# Altium footprint library Connectors.PcbLib: 62 footprints (part 3 of 4)
Each footprint in its own frame and in the unit in brackets; x right, y up, seen from the top. Pads: shape width x height; smd on the part's side, far side on the other; paste and mask are expansions set on the pad; w line width, h text height; cw(c..) or ccw(c..) is an arc to the next point about the centre after c.
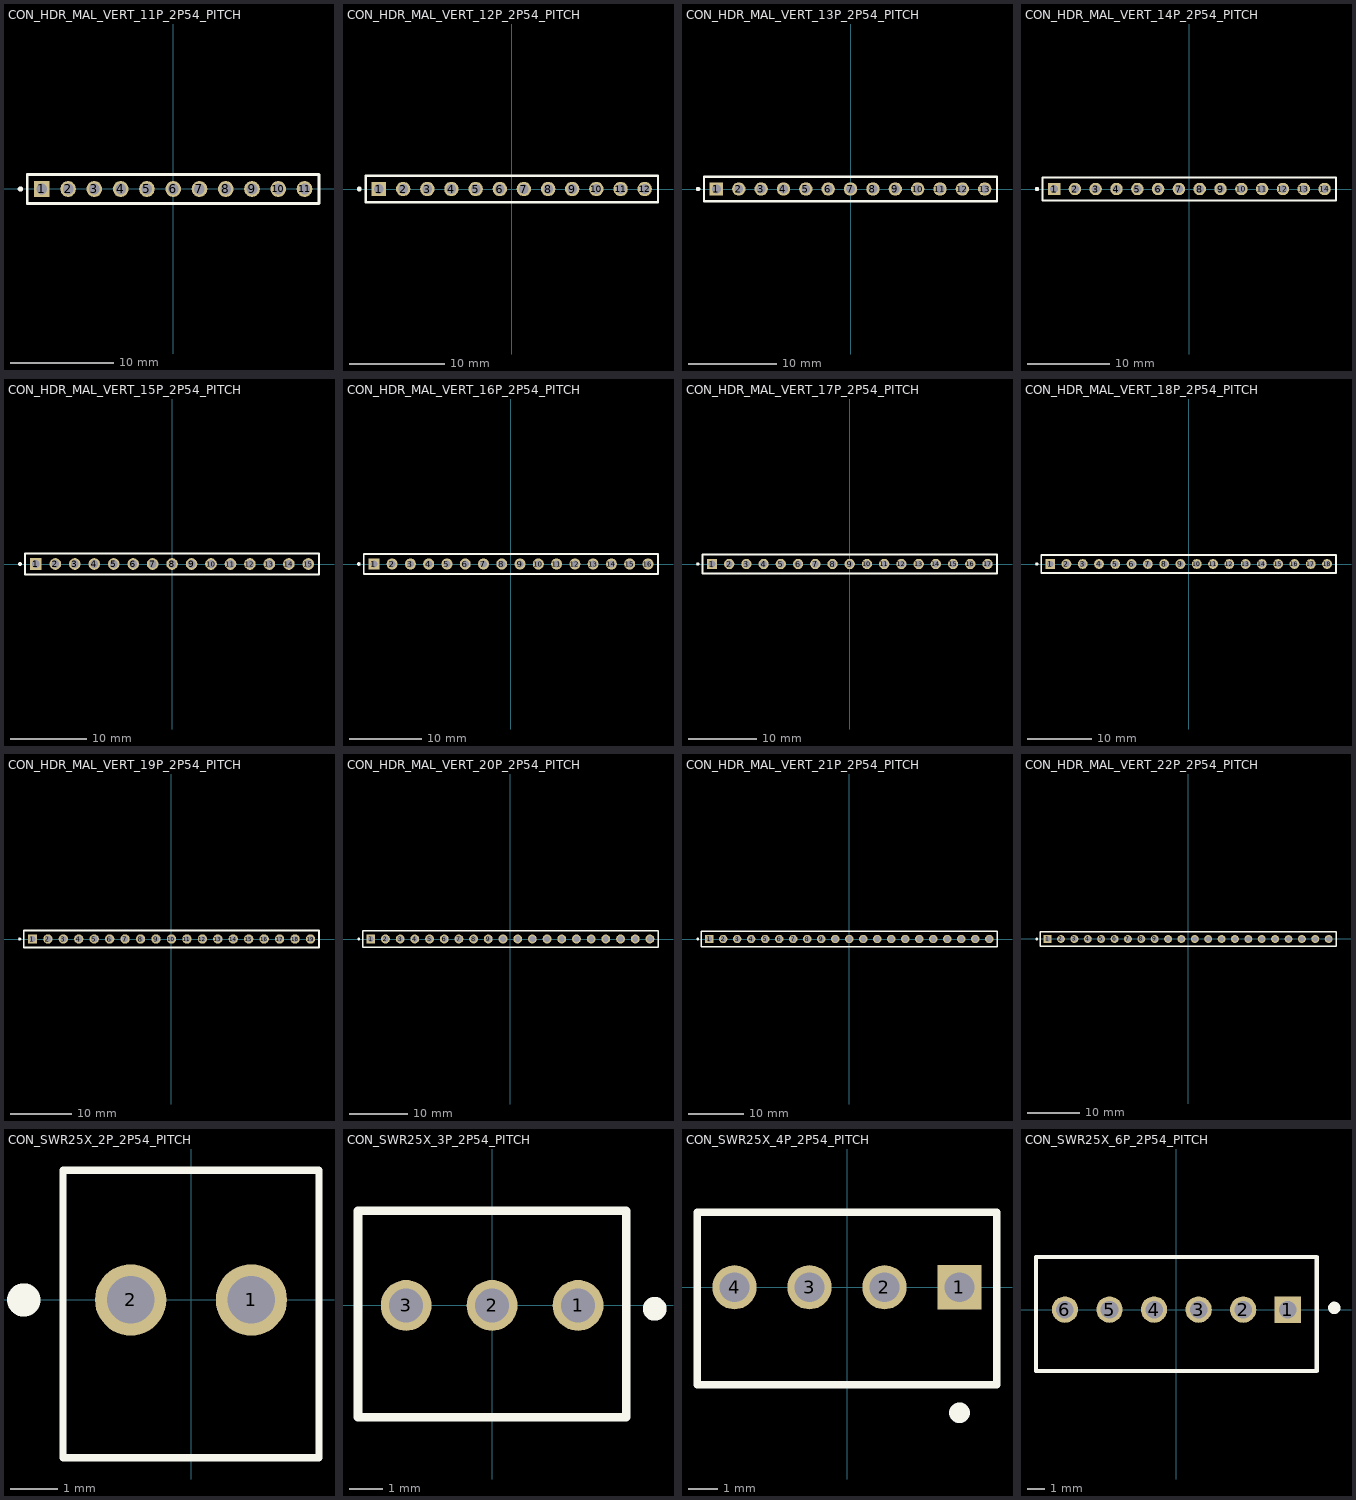
[diagram p2: the footprints below, top view; thin cyan lines are the x and y axes]

## CON_HDR_MAL_VERT_11P_2P54_PITCH [mil]
pads (11):
  rect 60x60 / inner round 60 / far side rect 60x60 hole 40 paste-99999 mask+0: 1(-500,0)
  round 60 hole 40 paste-99999 mask+0: 2(-400,0) 3(-300,0) 4(-200,0) 5(-100,0) 6(0,0) 7(100,0) 8(200,0) 9(300,0) 10(400,0) 11(500,0)
Top Overlay:
  circle w10: c-581.81,0 r5
  lines w10: -555,-55 555,-55 555,55 -555,55 -555,-55
3D body "11-Pin Header - Male - 2.54mm.step": height 350, standoff -120, extent -550.1,-50 549.9,50

## CON_HDR_MAL_VERT_12P_2P54_PITCH [mil]
pads (12):
  rect 60x60 / inner round 60 / far side rect 60x60 hole 39.37 paste-99999 mask+0: 1(-550,0)
  round 60 hole 39.37 paste-99999 mask+0: 2(-450,0) 3(-350,0) 4(-250,0) 5(-150,0) 6(-50,0) 7(50,0) 8(150,0) 9(250,0) 10(350,0) 11(450,0) 12(550,0)
Top Overlay:
  circle w10: c-631.81,0 r5
  lines w10: -605,-55 605,-55 605,55 -605,55 -605,-55
3D body "12-Pin Header - Male - 2.54mm.step": height 350, standoff -120, extent -600,-50 600,50

## CON_HDR_MAL_VERT_13P_2P54_PITCH [mil]
pads (13):
  rect 60x60 / inner round 60 / far side rect 60x60 hole 39.37 paste-99999 mask+0: 1(-600,0)
  round 60 hole 39.37 paste-99999 mask+0: 2(-500,0) 3(-400,0) 4(-300,0) 5(-200,0) 6(-100,0) 7(0,0) 8(100,0) 9(200,0) 10(300,0) 11(400,0) 12(500,0) 13(600,0)
Top Overlay:
  circle w10: c-681.81,0 r5
  lines w10: -655,-55 655,-55 655,55 -655,55 -655,-55
3D body "13-Pin Header - Male - 2.54mm.step": height 350, standoff -120, extent -650,-50 650,50

## CON_HDR_MAL_VERT_14P_2P54_PITCH [mil]
pads (14):
  rect 60x60 / inner round 60 / far side rect 60x60 hole 39.37 paste-99999 mask+0: 1(-650,0)
  round 60 hole 39.37 paste-99999 mask+0: 2(-550,0) 3(-450,0) 4(-350,0) 5(-250,0) 6(-150,0) 7(-50,0) 8(50,0) 9(150,0) 10(250,0) 11(350,0) 12(450,0) 13(550,0) 14(650,0)
Top Overlay:
  circle w10: c-731.81,0 r5
  lines w10: -705,-55 705,-55 705,55 -705,55 -705,-55
3D body "14-Pin Header - Male - 2.54mm.step": height 350, standoff -120, extent -700,-50 700,50

## CON_HDR_MAL_VERT_15P_2P54_PITCH [mil]
pads (15):
  rect 60x60 / inner round 60 / far side rect 60x60 hole 39.37 paste-99999 mask+0: 1(-700,0)
  round 60 hole 39.37 paste-99999 mask+0: 2(-600,0) 3(-500,0) 4(-400,0) 5(-300,0) 6(-200,0) 7(-100,0) 8(0,0) 9(100,0) 10(200,0) 11(300,0) 12(400,0) 13(500,0) 14(600,0) 15(700,0)
Top Overlay:
  circle w10: c-781.81,0 r5
  lines w10: -755,-55 755,-55 755,55 -755,55 -755,-55
3D body "15-Pin Header - Male - 2.54mm.step": height 350, standoff -120, extent -750,-50 750,50

## CON_HDR_MAL_VERT_16P_2P54_PITCH [mil]
pads (16):
  rect 60x60 / inner round 60 / far side rect 60x60 hole 39.37 paste-99999 mask+0: 1(-750,0)
  round 60 hole 39.37 paste-99999 mask+0: 2(-650,0) 3(-550,0) 4(-450,0) 5(-350,0) 6(-250,0) 7(-150,0) 8(-50,0) 9(50,0) 10(150,0) 11(250,0) 12(350,0) 13(450,0) 14(550,0) 15(650,0) 16(750,0)
Top Overlay:
  circle w10: c-831.81,0 r5
  lines w10: -805,-55 -805,55 805,55 805,-55 -805,-55
3D body "16-Pin Header - Male - 2.54mm.step": height 350, standoff -120, extent -800,-50 800,50

## CON_HDR_MAL_VERT_17P_2P54_PITCH [mil]
pads (17):
  rect 60x60 / inner round 60 / far side rect 60x60 hole 39.37 paste-99999 mask+0: 1(-800,0)
  round 60 hole 39.37 paste-99999 mask+0: 2(-700,0) 3(-600,0) 4(-500,0) 5(-400,0) 6(-300,0) 7(-200,0) 8(-100,0) 9(0,0) 10(100,0) 11(200,0) 12(300,0) 13(400,0) 14(500,0) 15(600,0) 16(700,0) 17(800,0)
Top Overlay:
  circle w10: c-881.81,0 r5
  lines w10: -855,-55 855,-55 855,55 -855,55 -855,-55
3D body "17-Pin Header - Male - 2.54mm.step": height 350, standoff -120, extent -850,-50 850,50

## CON_HDR_MAL_VERT_18P_2P54_PITCH [mil]
pads (18):
  rect 60x60 / inner round 60 / far side rect 60x60 hole 39.37 paste-99999 mask+0: 1(-850,0)
  round 60 hole 39.37 paste-99999 mask+0: 2(-750,0) 3(-650,0) 4(-550,0) 5(-450,0) 6(-350,0) 7(-250,0) 8(-150,0) 9(-50,0) 10(50,0) 11(150,0) 12(250,0) 13(350,0) 14(450,0) 15(550,0) 16(650,0) 17(750,0) 18(850,0)
Top Overlay:
  circle w10: c-931.81,0 r5
  lines w10: -905,-55 905,-55 905,55 -905,55 -905,-55
3D body "18-Pin Header - Male - 2.54mm.step": height 350, standoff -120, extent -900,-50 900,50

## CON_HDR_MAL_VERT_19P_2P54_PITCH [mil]
pads (19):
  rect 60x60 / inner round 60 / far side rect 60x60 hole 39.37 paste-99999 mask+0: 1(-900,0)
  round 60 hole 39.37 paste-99999 mask+0: 2(-800,0) 3(-700,0) 4(-600,0) 5(-500,0) 6(-400,0) 7(-300,0) 8(-200,0) 9(-100,0) 10(0,0) 11(100,0) 12(200,0) 13(300,0) 14(400,0) 15(500,0) 16(600,0) 17(700,0) 18(800,0) 19(900,0)
Top Overlay:
  circle w10: c-981.81,0 r5
  lines w10: -955,-55 955,-55 955,55 -955,55 -955,-55
3D body "19-Pin Header - Male - 2.54mm.step": height 350, standoff -120, extent -950,-50 950,50

## CON_HDR_MAL_VERT_20P_2P54_PITCH [mil]
pads (20):
  rect 60x60 / inner round 60 / far side rect 60x60 hole 39.37 paste-99999 mask+0: 1(-950,0)
  round 60 hole 39.37 paste-99999 mask+0: 2(-850,0) 3(-750,0) 4(-650,0) 5(-550,0) 6(-450,0) 7(-350,0) 8(-250,0) 9(-150,0) 10(-50,0) 11(50,0) 12(150,0) 13(250,0) 14(350,0) 15(450,0) 16(550,0) 17(650,0) 18(750,0) 19(850,0) 20(950,0)
Top Overlay:
  circle w10: c-1031.81,0 r5
  lines w10: -1005,-55 -1005,55 1005,55 1005,-55 -1005,-55
3D body "20-Pin Header - Male - 2.54mm.step": height 350, standoff -120, extent -1000,-50 1000,50

## CON_HDR_MAL_VERT_21P_2P54_PITCH [mil]
pads (21):
  rect 60x60 / inner round 60 / far side rect 60x60 hole 39.37 paste-99999 mask+0: 1(-1000,0)
  round 60 hole 39.37 paste-99999 mask+0: 2(-900,0) 3(-800,0) 4(-700,0) 5(-600,0) 6(-500,0) 7(-400,0) 8(-300,0) 9(-200,0) 10(-100,0) 11(0,0) 12(100,0) 13(200,0) 14(300,0) 15(400,0) 16(500,0) 17(600,0) 18(700,0) 19(800,0) 20(900,0) 21(1000,0)
Top Overlay:
  circle w10: c-1081.81,0 r5
  lines w10: -1055,-55 1055,-55 1055,55 -1055,55 -1055,-55
3D body "21-Pin Header - Male.STEP": height 354.21, standoff -117.86, extent -1050.01,-50.18 1050.01,49.82

## CON_HDR_MAL_VERT_22P_2P54_PITCH [mil]
pads (22):
  rect 60x60 / inner round 60 / far side rect 60x60 hole 39.37 paste-99999 mask+0: 1(-1050,0)
  round 60 hole 39.37 paste-99999 mask+0: 2(-950,0) 3(-850,0) 4(-750,0) 5(-650,0) 6(-550,0) 7(-450,0) 8(-350,0) 9(-250,0) 10(-150,0) 11(-50,0) 12(50,0) 13(150,0) 14(250,0) 15(350,0) 16(450,0) 17(550,0) 18(650,0) 19(750,0) 20(850,0) 21(950,0) 22(1050,0)
Top Overlay:
  circle w10: c-1131.81,0 r5
  lines w10: -1105,-55 -1105,55 1105,55 1105,-55 -1105,-55
3D body "22P.STEP": height 352.56, standoff -117.59, extent -1100.43,-50 1099.53,50.1

## CON_SWR25X_2P_2P54_PITCH [mm]
pads (2):
  round 1.5 hole 1 paste-2539.97 mask+0: 1(1.27,0) 2(-1.27,0)
Top Overlay:
  circle w0.5: c-3.52,0 r0.1
  lines w0.152: -2.692,-3.318 -2.692,2.727 2.692,2.727 2.692,-3.318 -2.692,-3.318
3D body "SWR25X-NRTC-S02-ST-BA.STEP": height 11.4, standoff -3.4, extent -2.56,-3.2 2.56,2.6

## CON_SWR25X_3P_2P54_PITCH [mm]
pads (3):
  round 1.5 hole 1 paste-2539.97 mask+0: 1(2.54,0) 2(0,0) 3(-2.54,0)
Top Overlay:
  circle w0.5: c4.8,-0.1 r0.1
  lines w0.254: -3.962,-3.302 3.962,-3.302 3.962,2.794 -3.962,2.794 -3.962,-3.302
3D body "SWR25X-NRTC-S03-ST-BA.STEP": height 11.4, standoff -3.4, extent -3.83,-3.2 3.83,2.6

## CON_SWR25X_4P_2P54_PITCH [mm]
pads (4):
  rect 1.5x1.5 hole 1: 1(3.81,0)
  round 1.5 hole 1: 2(1.27,0) 3(-1.27,0) 4(-3.81,0)
Top Overlay:
  circle w0.5: c3.81,-4.25 r0.1
  lines w0.254: -5.08,-3.302 5.08,-3.302 5.08,2.54 -5.08,2.54 -5.08,-3.302
3D body "SWR25X-NRTC-S04-ST-BA_MOD.STEP": height 11.4, standoff -3.4, extent -5.1,-3.2 5.1,2.6

## CON_SWR25X_6P_2P54_PITCH [mm]
pads (6):
  rect 1.5x1.5 hole 1: 1(6.35,0)
  round 1.5 hole 1: 2(3.81,0) 3(1.27,0) 4(-1.27,0) 5(-3.81,0) 6(-6.35,0)
Top Overlay:
  circle w0.5: c9,0.1 r0.1
  lines w0.254: -8,-3.5 8,-3.5 8,3 -8,3 -8,-3.5
3D body "SWR25X-NRTC-S06-ST-BA.STEP": height 11.4, standoff -3.4, extent -7.64,-3.2 7.64,2.6